# Altium footprint library PcbLib1.PcbLib: 6 footprints
Each footprint in its own frame and in the unit in brackets; x right, y up, seen from the top. Pads: shape width x height; smd on the part's side, far side on the other; paste and mask are expansions set on the pad; w line width, h text height; cw(c..) or ccw(c..) is an arc to the next point about the centre after c.
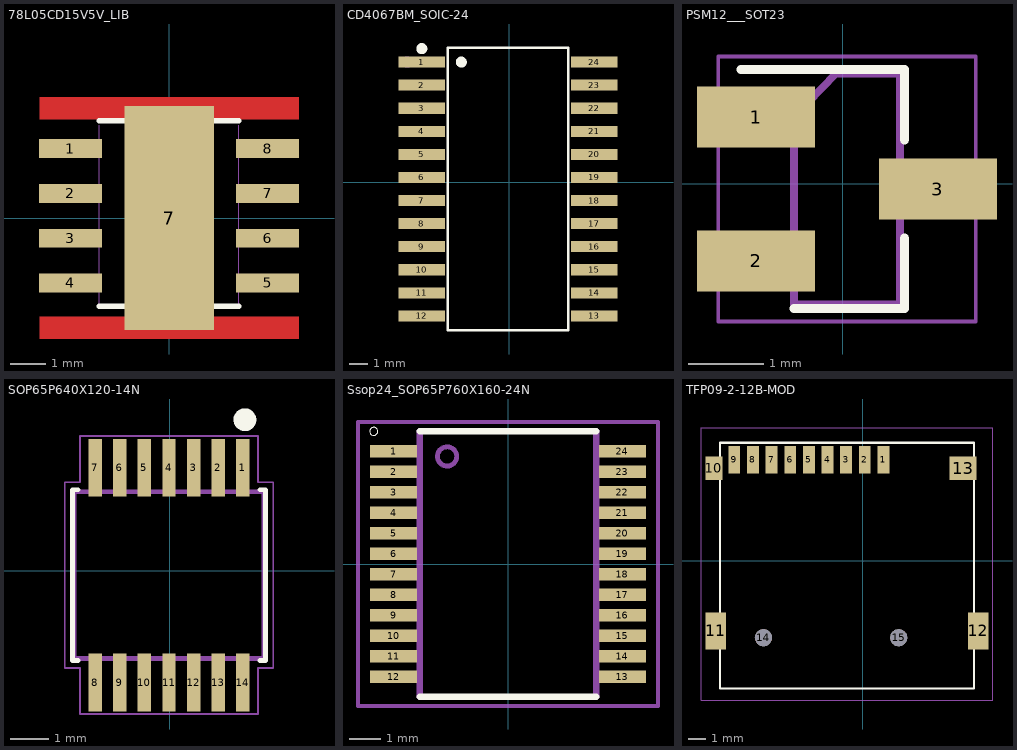
[diagram p0: the footprints below, top view; thin cyan lines are the x and y axes]

## 78L05CD15V5V_LIB [mil]
pads (9):
  rect 70.87x21 smd: 1(-110.35,77.56) 2(-110.35,27.56) 3(-110.35,-22.44) 4(-110.35,-72.44) 5(109.65,-72.44) 6(109.65,-22.44) 7(109.65,27.56) 8(109.65,77.56)
  rect 100x250 smd paste+0 mask+0: 7(0,0)
Top Layer:
  rectangle: -145,-135 145,-110
  rectangle: -145,110 145,135
  region: 85,200
Top Overlay:
  lines w6: -78.35,-98.44 77.65,-98.44 ; -78.35,108.56 -12.35,108.56 ; 77.65,108.56 11.65,108.56 ; -12.35,108.56 ccw(c-0.35,108.56) 11.65,108.56 ; -12.35,108.56 11.65,108.56
Mechanical 15:
  lines w0.39: -78.35,103.56 -78.35,-98.44 77.65,-98.44 77.65,103.56 ; -78.35,108.56 -12.35,108.56 ; 77.65,108.56 11.65,108.56 ; -12.35,108.56 ccw(c-0.35,108.56) 11.65,108.56 ; -12.35,108.56 11.65,108.56 ; -124.35,-81.44 -124.35,-63.44 -78.35,-63.44 -78.35,-81.44 -124.35,-81.44 ; -124.35,-31.44 -124.35,-13.44 -78.35,-13.44 -78.35,-31.44 -124.35,-31.44 ; -124.35,18.56 -124.35,36.56 -78.35,36.56 -78.35,18.56 -124.35,18.56 ; -124.35,68.56 -124.35,86.56 -78.35,86.56 -78.35,68.56 -124.35,68.56 ; 77.65,-81.44 77.65,-63.44 123.65,-63.44 123.65,-81.44 77.65,-81.44 ; 77.65,-31.44 77.65,-13.44 123.65,-13.44 123.65,-31.44 77.65,-31.44 ; 77.65,18.56 77.65,36.56 123.65,36.56 123.65,18.56 77.65,18.56 ; 77.65,68.56 77.65,86.56 123.65,86.56 123.65,68.56 77.65,68.56

## CD4067BM_SOIC-24 [mil]
pads (24):
  rect 100x24 smd: 1(-190,260) 2(-190,210) 3(-190,160) 4(-190,110) 5(-190,60) 6(-190,10) 7(-190,-40) 8(-190,-90) 9(-190,-140) 10(-190,-190) 11(-190,-240) 12(-190,-290) 13(183.54,-290) 14(183.54,-240) 15(183.54,-190) 16(183.54,-140) 17(183.54,-90) 18(183.54,-40) 19(183.54,10) 20(183.54,60) 21(183.54,110) 22(183.54,160) 23(183.54,210) 24(183.54,260)
Top Overlay:
  circle w11.81: c-104.37,260 r5.91
  circle w11.81: c-190,289.11 r5.91
  lines w6: -133.99,-321.15 127.54,-321.15 127.54,291.15 -133.99,291.15 -133.99,-321.15
Mechanical 15:
  circle w11.81: c-221.73,260 r5.91

## PSM12___SOT23 [mil]
pads (3):
  rect 61.42x31.5 smd: 1(-45,34.8) 2(-45,-40) 3(49.48,-2.6)
Top Overlay:
  lines w4.72: -52.88,59.6 32.16,59.6 32.16,22.99 ; -25.32,-64.8 32.16,-64.8 32.16,-28.19
Mechanical 1:
  lines w1.97: -64.69,-71.5 69.17,-71.5 69.17,66.3 -64.69,66.3 -64.69,-71.5
Mechanical 15:
  lines w3.94: -25.32,-62.44 29.8,-62.44 29.8,57.24 -3.67,57.24 -25.32,34.8 -25.32,-61.66
  text "Q3" at 12.08,-18.35 h19.68

## SOP65P640X120-14N [mil]
pads (14):
  rect 14x60 smd: 1(76.03,106.89) 2(50.44,106.89) 3(24.84,106.89) 4(-0.74,106.89) 5(-26.34,106.89) 6(-51.94,106.89) 7(-77.53,106.89) 8(-77.53,-116.33) 9(-51.94,-116.33) 10(-26.34,-116.33) 11(-0.74,-116.33) 12(24.84,-116.33) 13(50.44,-116.33) 14(76.03,-116.33)
Top Overlay:
  lines w5: -95.23,-93.31 -101.14,-93.31 -101.14,83.86 -95.23,83.86 ; 93.73,-93.31 99.64,-93.31 99.64,83.86 93.73,83.86
  lines w11.81: 77.73,150.79 cw(c78.08,156.69) 77.99,150.78
Mechanical 1:
  lines w1.97: -109.02,-101.19 -93.08,-101.19 -93.08,-149.01 91.58,-149.01 91.58,-101.19 107.52,-101.19 107.52,91.73 91.58,91.73 91.58,139.56 -93.08,139.56 -93.08,91.73 -109.02,91.73 -109.02,-101.19
Mechanical 15:
  lines w5: -99.17,-91.33 -99.17,81.89 97.67,81.89 97.67,-91.33 -99.17,-91.33

## Ssop24_SOP65P760X160-24N [mm]
pads (24):
  rect 1.5x0.4 smd: 1(-3.625,3.575) 2(-3.625,2.925) 3(-3.625,2.275) 4(-3.625,1.625) 5(-3.625,0.975) 6(-3.625,0.325) 7(-3.625,-0.325) 8(-3.625,-0.975) 9(-3.625,-1.625) 10(-3.625,-2.275) 11(-3.625,-2.925) 12(-3.625,-3.575) 13(3.625,-3.575) 14(3.625,-2.925) 15(3.625,-2.275) 16(3.625,-1.625) 17(3.625,-0.975) 18(3.625,-0.325) 19(3.625,0.325) 20(3.625,0.975) 21(3.625,1.625) 22(3.625,2.275) 23(3.625,2.925) 24(3.625,3.575)
Top Overlay:
  circle w0: c-4.25,4.2 r0.127
  lines w0.203: -2.8,-4.2 2.8,-4.2 ; -2.8,4.2 2.8,4.2
Mechanical 13:
  circle w0.152: c-1.928,3.406 r0.305
  region: -2.8,3.435 -3.811,3.435 -3.811,3.725 -2.8,3.725
  region: -2.8,2.78 -3.807,2.78 -3.807,3.075 -2.8,3.075
  region: -2.8,2.132 -3.812,2.132 -3.812,2.425 -2.8,2.425
  region: -2.8,1.478 -3.807,1.478 -3.807,1.775 -2.8,1.775
  region: -2.8,0.827 -3.808,0.827 -3.808,1.125 -2.8,1.125
  region: -2.8,0.175 -3.807,0.175 -3.807,0.475 -2.8,0.475
  region: -2.8,-0.476 -3.812,-0.476 -3.812,-0.175 -2.8,-0.175
  region: -2.8,-1.127 -3.808,-1.127 -3.808,-0.825 -2.8,-0.825
  region: -2.8,-1.78 -3.81,-1.78 -3.81,-1.475 -2.8,-1.475
  region: -2.8,-2.432 -3.81,-2.432 -3.81,-2.125 -2.8,-2.125
  region: -2.8,-3.081 -3.808,-3.081 -3.808,-2.775 -2.8,-2.775
  region: -2.8,-3.733 -3.808,-3.733 -3.808,-3.425 -2.8,-3.425
  region: 3.8,0.175 2.807,0.175 2.807,0.475 3.8,0.475
  region: 3.8,0.827 2.807,0.827 2.807,1.125 3.8,1.125
  region: 3.8,2.126 2.802,2.126 2.802,2.425 3.8,2.425
  region: 3.8,2.781 2.806,2.781 2.806,3.075 3.8,3.075
  region: 3.8,3.431 2.805,3.431 2.805,3.725 3.8,3.725
  region: 3.8,-3.731 2.805,-3.731 2.805,-3.425 3.8,-3.425
  region: 3.8,-3.084 2.808,-3.084 2.808,-2.775 3.8,-2.775
  region: 3.8,-1.777 2.803,-1.777 2.803,-1.475 3.8,-1.475
  region: 3.8,-1.128 2.808,-1.128 2.808,-0.825 3.8,-0.825
  region: 3.8,-0.476 2.806,-0.476 2.806,-0.175 3.8,-0.175
  region: 3.8,1.478 2.805,1.478 2.805,1.775 3.8,1.775
  region: 3.8,-2.428 2.804,-2.428 2.804,-2.125 3.8,-2.125
  lines w0.203: -2.8,-4.2 -2.8,4.2 ; 2.8,-4.2 2.8,4.2
Mechanical 15:
  lines w0.127: -4.75,-4.5 4.75,-4.5 4.75,4.5 -4.75,4.5 -4.75,-4.5

## TFP09-2-12B-MOD [mm]
pads (15):
  rect 0.7x1.6 smd: 1(1.231,5.951) 2(0.131,5.951) 3(-0.969,5.951) 4(-2.069,5.951) 5(-3.169,5.951) 6(-4.269,5.951) 7(-5.369,5.951) 8(-6.469,5.951) 9(-7.569,5.951)
  rect 1x1.4 smd: 10(-8.769,5.451)
  rect 1.2x2.2 smd: 11(-8.669,-4.149) 12(6.831,-4.149)
  rect 1.6x1.4 smd: 13(5.931,5.451)
  round 1 on Top hole 1 unplated: 14(-5.849,-4.549) 15(2.131,-4.549)
Top Overlay:
  lines w0.127: -8.419,-7.549 -8.419,6.951 6.581,6.951 6.581,-7.549 -8.419,-7.549
Mechanical 2:
  lines w0.013: -9.519,-8.249 -9.519,7.851 7.681,7.851 7.681,-8.249 -9.519,-8.249
Mechanical 15:
  lines w0.003: 0.034,-0.072 0.034,-0.071